# Altium schematic symbol library Discrete.SchLib: 8 symbols
Pins are listed as number, name and electrical type; pins without a type are passive.

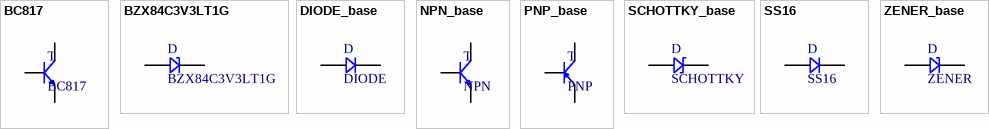
[diagram p0: symbols BC817 to ZENER_base]

## BC817
designator T
BC817 NPN-UNI 45V 0.5A 0.25W 200MHz SOT-23; Ic: 500mA; Vrev: 45V; Power: 0.25W
footprint SOT23-3 (SOT23, 3-Leads, Body 2,90x2,50mm, Pitch 0,95mm, IPC Medium Density)
pins: 1 B, 2 E, 3 C

## BZX84C3V3LT1G
designator D
3V3 ZENER DIODE 225 mW SOT−23
footprint SOT23-3 (SOT23, 3-Leads, Body 2,90x2,50mm, Pitch 0,95mm, IPC Medium Density)
pins: 1, 3

## DIODE_base
designator D, comment DIODE
pins: 1, 2

## NPN_base
designator T, comment NPN
pins: 1 B, 2 E, 3 C

## PNP_base
designator T, comment PNP
pins: 1 B, 2 C, 3 E

## SCHOTTKY_base
designator D, comment SCHOTTKY
pins: 1, 2

## SS16
designator D
RECTIFIER 1A 60V
footprint DO-214AC (Molded Diode, 2-Leads, Body 4,25x2,65mm, IPC Medium Density)
pins: 1, 2

## ZENER_base
designator D, comment ZENER
pins: 1, 2